# Altium schematic symbol library Audio-Cable.Schlib: 1 symbol
Pins are listed as number, name and electrical type; pins without a type are passive.

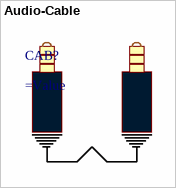
[diagram p0: symbol Audio-Cable]

## Audio-Cable
designator CAB?
=Description